# EAGLE library part BS62LV1027PCP70 (library logik)
128Kx8 SRAM, 70ns
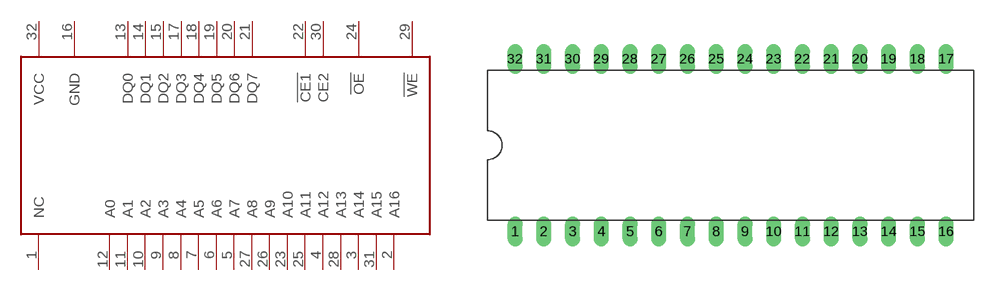
[diagram p1: symbol with the pads of DIL32-6; footprint DIL32-6]

Designator prefix -

## BS62LV1027PCP70  [DIL32-6]
1  NC
2  A16
3  A14
4  A12
5  A7
6  A6
7  A5
8  A4
9  A3
10  A2
11  A1
12  A0
13  DQ0
14  DQ1
15  DQ2
16  GND
17  DQ3
18  DQ4
19  DQ5
20  DQ6
21  DQ7
22  !CE1
23  A10
24  !OE
25  A11
26  A9
27  A8
28  A13
29  !WE
30  CE2
31  A15
32  VCC

## Footprint DIL32-6 (pad centres in mm)
drill 0.813 long: 1 -19.05,-7.62; 2 -16.51,-7.62; 3 -13.97,-7.62; 4 -11.43,-7.62; 5 -8.89,-7.62; 6 -6.35,-7.62; 7 -3.81,-7.62; 8 -1.27,-7.62; 9 1.27,-7.62; 10 3.81,-7.62; 11 6.35,-7.62; 12 8.89,-7.62; 13 11.43,-7.62; 14 13.97,-7.62; 15 16.51,-7.62; 16 19.05,-7.62; 17 19.05,7.62; 18 16.51,7.62; 19 13.97,7.62; 20 11.43,7.62; 21 8.89,7.62; 22 6.35,7.62; 23 3.81,7.62; 24 1.27,7.62; 25 -1.27,7.62; 26 -3.81,7.62; 27 -6.35,7.62; 28 -8.89,7.62; 29 -11.43,7.62; 30 -13.97,7.62; 31 -16.51,7.62; 32 -19.05,7.62